# EAGLE library part PCA9955 (library 2000dB)
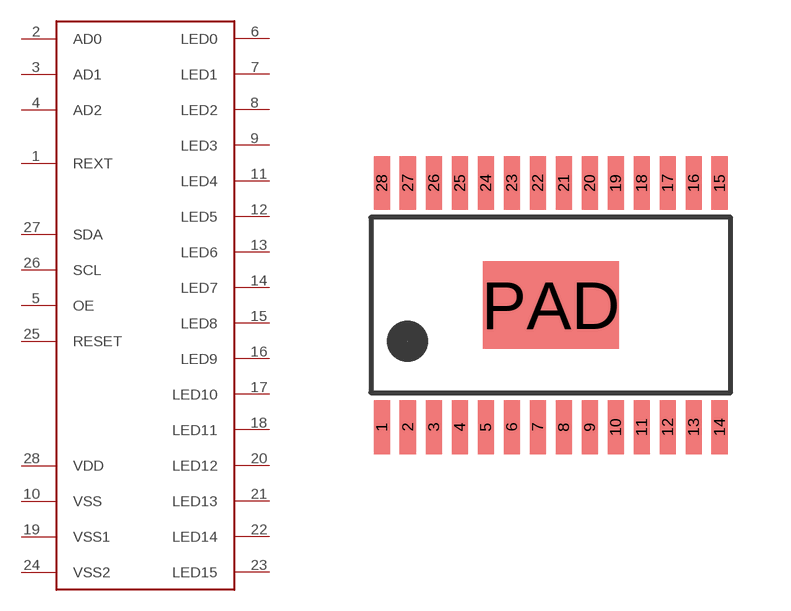
[diagram p9: symbol with the pads of HTSSOP28-POWERPAD; footprint HTSSOP28-POWERPAD]

Designator prefix -

## PCA9955  [HTSSOP28-POWERPAD]
1  REXT
2  AD0
3  AD1
4  AD2
5  OE
6  LED0
7  LED1
8  LED2
9  LED3
10  VSS
11  LED4
12  LED5
13  LED6
14  LED7
15  LED8
16  LED9
17  LED10
18  LED11
19  VSS1
20  LED12
21  LED13
22  LED14
23  LED15
24  VSS2
25  RESET
26  SCL
27  SDA
28  VDD

## Footprint HTSSOP28-POWERPAD (pad centres in mm)
smd 0.4 x 1.35: 1 -4.225,-3.05; 2 -3.575,-3.05; 3 -2.925,-3.05; 4 -2.275,-3.05; 5 -1.625,-3.05; 6 -0.975,-3.05; 7 -0.325,-3.05; 8 0.325,-3.05; 9 0.975,-3.05; 10 1.625,-3.05; 11 2.275,-3.05; 12 2.925,-3.05; 13 3.575,-3.05; 14 4.225,-3.05; 15 4.225,3.05; 16 3.575,3.05; 17 2.925,3.05; 18 2.275,3.05; 19 1.625,3.05; 20 0.975,3.05; 21 0.325,3.05; 22 -0.325,3.05; 23 -0.975,3.05; 24 -1.625,3.05; 25 -2.275,3.05; 26 -2.925,3.05; 27 -3.575,3.05; 28 -4.225,3.05
smd 3.4 x 2.2: PAD 0,0